# Altium schematic symbol library BQ2057DGK.SchLib: 1 symbol
Pins are listed as number, name and electrical type; pins without a type are passive.

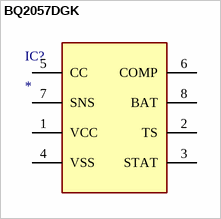
[diagram p0: symbol BQ2057DGK]

## BQ2057DGK
designator IC?
Integrated Circuit; Manufacturer_Name: Texas Instruments; Manufacturer_Part_Number: BQ2057DGK; Datasheet Link: http://www.ti.com/lit/gpn/bq2057; Height: 1.1mm; Mouser Part Number: 595-BQ2057DGK; Mouser Price/Stock: https://www.mouser.co.uk/ProductDetail/Texas-Instruments/BQ2057DGK?qs=%252BvKcWiXw%252BzSJ0bLK4d1pVw%3D%3D; Arrow Part Number: BQ2057DGK; Arrow Price/Stock: https://www.arrow.com/en/products/bq2057dgk/texas-instruments?region=nac
footprint BQ2057DGK
pins: 1 VCC, 2 TS, 3 STAT, 4 VSS, 5 CC, 6 COMP, 7 SNS, 8 BAT